# EAGLE library part LM2576S (library equinox)
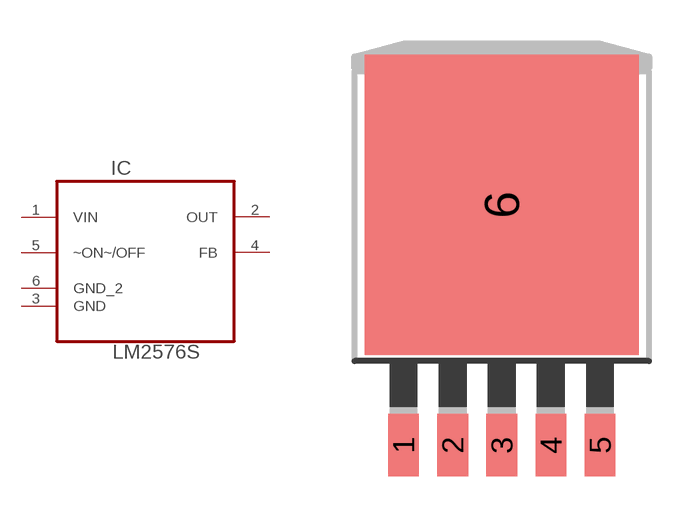
[diagram p11: symbol with the pads of TO263-5; footprint TO263-5]

Designator prefix IC

## LM2576S  [TO263-5]
1  VIN  in
2  OUT  out
3  GND  pas
4  FB
5  ~ON~/OFF  pas
6  GND_2  pas

## Footprint TO263-5 (pad centres in mm)
TO-263
smd 1.067 x 2.159: 1 -3.404,-5.791; 2 -1.702,-5.791; 3 0,-5.791; 4 1.702,-5.791; 5 3.404,-5.791
smd 9.5 x 10.41: 6 0,2.54